# EAGLE library part DSUB37 (library DSDEagleLibrary)
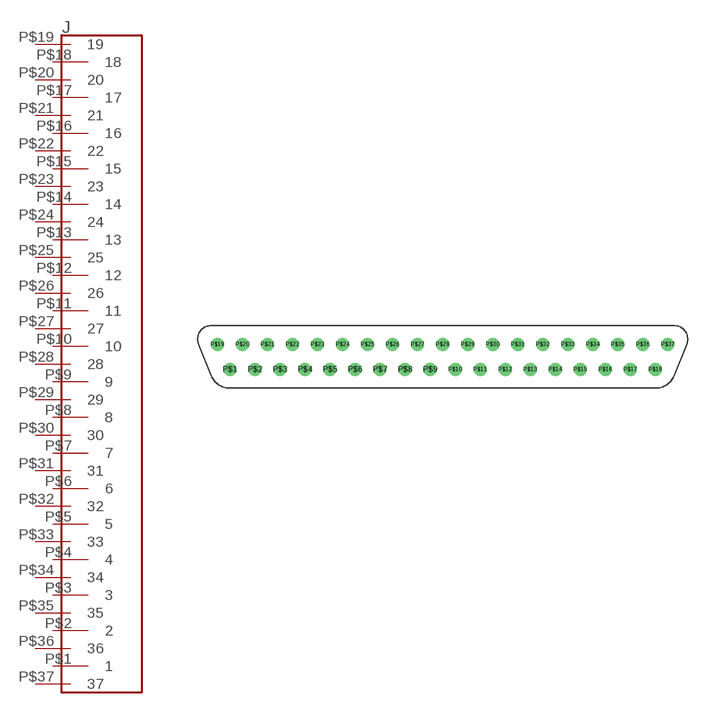
[diagram p32: symbol with the pads of DSUB37; footprint DSUB37]

Designator prefix J

## DSUB37  [DSUB37]
P$1  1
P$2  2
P$3  3
P$4  4
P$5  5
P$6  6
P$7  7
P$8  8
P$9  9
P$10  10
P$11  11
P$12  12
P$13  13
P$14  14
P$15  15
P$16  16
P$17  17
P$18  18
P$19  19
P$20  20
P$21  21
P$22  22
P$23  23
P$24  24
P$25  25
P$26  26
P$27  27
P$28  28
P$29  29
P$30  30
P$31  31
P$32  32
P$33  33
P$34  34
P$35  35
P$36  36
P$37  37

## Footprint DSUB37 (pad centres in mm)
drill 0.813: P$1 0,0; P$2 2.54,0; P$3 5.08,0; P$4 7.62,0; P$5 10.16,0; P$6 12.7,0; P$7 15.24,0; P$8 17.78,0; P$9 20.32,0; P$10 22.86,0; P$11 25.4,0; P$12 27.94,0; P$13 30.48,0; P$14 33.02,0; P$15 35.56,0; P$16 38.1,0; P$17 40.64,0; P$18 43.18,0; P$19 -1.27,2.54; P$20 1.27,2.54; P$21 3.81,2.54; P$22 6.35,2.54; P$23 8.89,2.54; P$24 11.43,2.54; P$25 13.97,2.54; P$26 16.51,2.54; P$27 19.05,2.54; P$28 21.59,2.54; P$29 24.13,2.54; P$30 26.67,2.54; P$31 29.21,2.54; P$32 31.75,2.54; P$33 34.29,2.54; P$34 36.83,2.54; P$35 39.37,2.54; P$36 41.91,2.54; P$37 44.45,2.54